# Altium schematic symbol library LVS Library.SchLib: 61 symbols (part 2 of 3)
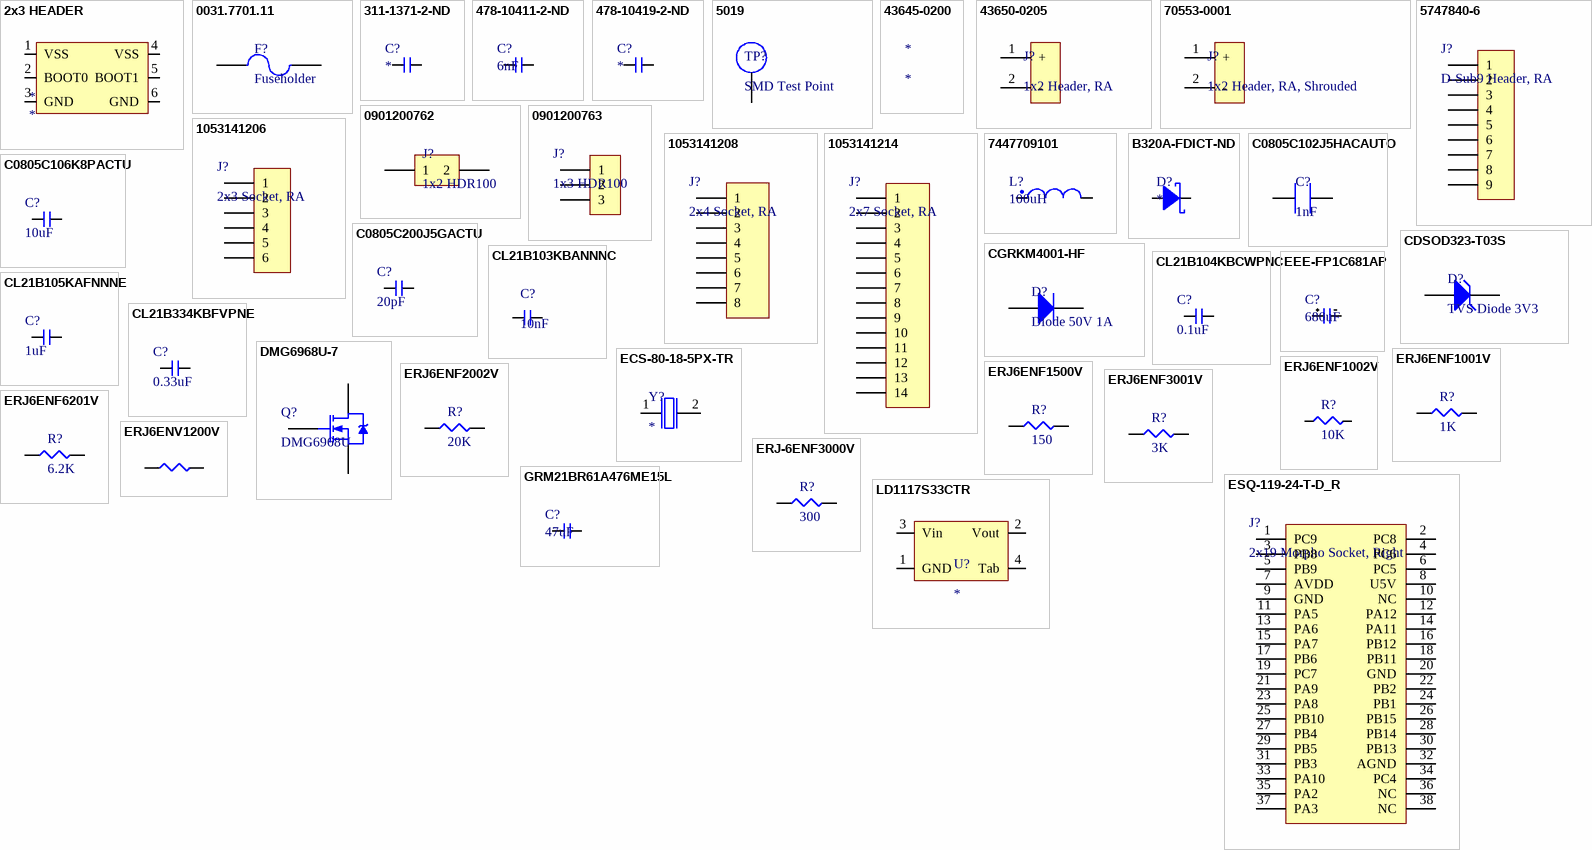
[diagram p2: symbols 2x3 HEADER to LD1117S33CTR]

## ERJ6ENF1500V
designator R?, comment 150
RES SMD 150 OHM 1% 1/8W 0805; Manufacturer: Panasonic; Manufacturer Part Number: ERJ6ENF1500V; Voltage Rating: 150V; Resistance: 150R; Power Rating: 125mW; Temperature Coefficient: 100ppm/°C; Supplier 1: Digi-Key; Supplier Part Number 1: P150CCT-ND; Stock 1: 287199; Pricing 1: 1 = 0.10000, 10 = 0.08100, 100 = 0.03110, 1000 = 0.01367, 2500 = 0.01181 (USD); RoHS: Yes; Mount: Surface Mount; Case/Package: 0805; Number of Pins: 2; Case Code (Metric): 2012; Case Code (Imperial): 0805; Contact Plating: Tin; Min Operating Temperature: -55°C; Max Operating Temperature: 155°C; Category: Resistors; Tolerance: 1%; Package Quantity: 1; Composition: Thick Film; Number of Terminations: 2; Military Standard: Not; Termination: SMD/SMT; Max Power Dissipation: 125mW; Voltage Rating (DC): 150V; Features: Automotive AEC-Q200; Working Voltage: 150V; Length: 2mm; Height: 0.6mm; Width: 0.049inch; Depth: 1.25mm; Radiation Hardening: No; REACH SVHC: No SVHC; Lead Free: Lead Free; ComponentLink1URL: https://datasheet.ciiva.com/11821/0900766b80f80784-11821520.pdf?src-supplier=RSComponents; ComponentLink1Description: https://datasheet.ciiva.com/11821/0900766b80f80784-11821520.pdf?src-supplier=RSComponents; ComponentLink2URL: https://datasheet.ciiva.com/7887/426256-7887029.pdf?src-supplier=Element14; ComponentLink2Description: https://datasheet.ciiva.com/7887/426256-7887029.pdf?src-supplier=Element14; ComponentLink3URL: https://datasheet.ciiva.com/16761/70260748-16761222.pdf?src-supplier=Allied+Electronics; ComponentLink3Description: https://datasheet.ciiva.com/16761/70260748-16761222.pdf?src-supplier=Allied+Electronics; ComponentLink4URL: https://datasheet.ciiva.com/46373/1678782-46373270.pdf?src-supplier=Element14; ComponentLink4Description: https://datasheet.ciiva.com/46373/1678782-46373270.pdf?src-supplier=Element14; ComponentLink5URL: https://datasheet.ciiva.com/46373/1678782-46373271.pdf?src-supplier=Element14; ComponentLink5Description: https://datasheet.ciiva.com/46373/1678782-46373271.pdf?src-supplier=Element14; ComponentLink6URL: https://datasheet.ciiva.com/30203/aoa0000ce2-30203641.pdf?src-supplier=Onlinecomponents.com; ComponentLink6Description: https://datasheet.ciiva.com/30203/aoa0000ce2-30203641.pdf?src-supplier=Onlinecomponents.com; ComponentLink7URL: https://datasheet.ciiva.com/9185/aoa0000ce2-9185514.pdf?src-supplier=Avnet; ComponentLink7Description: https://datasheet.ciiva.com/9185/aoa0000ce2-9185514.pdf?src-supplier=Avnet; Parameter 1: *
footprint R0805
pins: 1, 2

## ERJ6ENF2002V
designator R?, comment 20K
RES SMD 20K OHM 1% 1/8W 0805; Manufacturer: Panasonic; Manufacturer Part Number: ERJ6ENF2002V; Resistance: 20kR; Power Rating: 125mW; Voltage Rating: 150V; Temperature Coefficient: 100ppm/°C; Supplier 1: Digi-Key; Supplier Part Number 1: P20.0KCCT-ND; Stock 1: 1039498; Pricing 1: 1 = 0.10000, 10 = 0.08100, 100 = 0.03110, 1000 = 0.01367, 2500 = 0.01181 (USD); RoHS: Yes; Mount: Surface Mount; Case/Package: 0805; Case Code (Metric): 2012; Case Code (Imperial): 0805; Contact Plating: Tin; Min Operating Temperature: -55°C; Max Operating Temperature: 155°C; Tolerance: 1%; Packaging: Tape and Reel; Package Quantity: 1; Composition: Thick Film; Number of Terminations: 2; Military Standard: Not; Termination: SMD/SMT; Max Power Dissipation: 125mW; Voltage Rating (DC): 150V; Features: Automotive AEC-Q200; Working Voltage: 150V; Length: 2mm; Height: 0.6mm; Width: 0.049inch; Depth: 1.25mm; Radiation Hardening: No; REACH SVHC: No SVHC; Lead Free: Lead Free; ComponentLink1URL: https://datasheet.ciiva.com/11821/0900766b80f80784-11821565.pdf?src-supplier=RSComponents; ComponentLink1Description: https://datasheet.ciiva.com/11821/0900766b80f80784-11821565.pdf?src-supplier=RSComponents; ComponentLink2URL: https://datasheet.ciiva.com/30072/aoa0000ce2-30072453.pdf?src-supplier=Onlinecomponents.com; ComponentLink2Description: https://datasheet.ciiva.com/30072/aoa0000ce2-30072453.pdf?src-supplier=Onlinecomponents.com; ComponentLink3URL: https://datasheet.ciiva.com/43460/426256-43460054.pdf?src-supplier=Farnell; ComponentLink3Description: https://datasheet.ciiva.com/43460/426256-43460054.pdf?src-supplier=Farnell; ComponentLink4URL: https://datasheet.ciiva.com/16786/70260748-16786968.pdf?src-supplier=Allied+Electronics; ComponentLink4Description: https://datasheet.ciiva.com/16786/70260748-16786968.pdf?src-supplier=Allied+Electronics; ComponentLink5URL: https://datasheet.ciiva.com/9192/aoa0000ce2-9192153.pdf?src-supplier=Avnet; ComponentLink5Description: https://datasheet.ciiva.com/9192/aoa0000ce2-9192153.pdf?src-supplier=Avnet; ComponentLink6URL: https://datasheet.ciiva.com/48531/aoa0000ce2-48531785.pdf?src-supplier=Avnet; ComponentLink6Description: https://datasheet.ciiva.com/48531/aoa0000ce2-48531785.pdf?src-supplier=Avnet; ComponentLink7URL: https://datasheet.ciiva.com/15159/getdatasheetpartid-249649-15159066.pdf?src-supplier=Verical; ComponentLink7Description: https://datasheet.ciiva.com/15159/getdatasheetpartid-249649-15159066.pdf?src-supplier=Verical; ComponentLink8URL: https://datasheet.ciiva.com/17211/aoa0000ce2-17211115.pdf?src-supplier=Avnet+Europe; ComponentLink8Description: https://datasheet.ciiva.com/17211/aoa0000ce2-17211115.pdf?src-supplier=Avnet+Europe; ComponentLink9URL: https://datasheet.ciiva.com/46389/426256-46389083.pdf?src-supplier=Element14; ComponentLink9Description: https://datasheet.ciiva.com/46389/426256-46389083.pdf?src-supplier=Element14; ComponentLink10URL: https://datasheet.ciiva.com/46377/426256-46377356.pdf?src-supplier=Element14; ComponentLink10Description: https://datasheet.ciiva.com/46377/426256-46377356.pdf?src-supplier=Element14; ComponentLink11URL: https://datasheet.ciiva.com/24025/aoa0000ce2-24025709.pdf?src-supplier=Mouser; ComponentLink11Description: https://datasheet.ciiva.com/24025/aoa0000ce2-24025709.pdf?src-supplier=Mouser; ComponentLink12URL: https://datasheet.ciiva.com/28688/1678782-28688637.pdf?src-supplier=Element14; ComponentLink12Description: https://datasheet.ciiva.com/28688/1678782-28688637.pdf?src-supplier=Element14; ComponentLink13URL: https://datasheet.ciiva.com/16512/aoa0000ce2-16512158.pdf?src-supplier=Avnet+Asia; ComponentLink13Description: https://datasheet.ciiva.com/16512/aoa0000ce2-16512158.pdf?src-supplier=Avnet+Asia; ComponentLink14URL: https://datasheet.ciiva.com/22749/1678782-22749662.pdf?src-supplier=Element14; ComponentLink14Description: https://datasheet.ciiva.com/22749/1678782-22749662.pdf?src-supplier=Element14; Category: Resistors
footprint R0805
pins: 1, 2

## ERJ6ENF3001V
designator R?, comment 3K
RES SMD 3K OHM 1% 1/8W 0805; Manufacturer: Panasonic; Manufacturer Part Number: ERJ6ENF3001V; Resistance: 3kR; Power Rating: 125mW; Voltage Rating: 150V; Temperature Coefficient: 100ppm/°C; Supplier 1: Digi-Key; Supplier Part Number 1: P3.0KCCT-ND; Stock 1: 514759; Pricing 1: 1 = 0.10000, 10 = 0.08100, 100 = 0.03110, 1000 = 0.01367, 2500 = 0.01181 (USD); RoHS: Yes; Mount: Surface Mount; Case/Package: 0805; Weight: 0.000194oz; Case Code (Metric): 2012; Case Code (Imperial): 0805; Contact Plating: Tin; Min Operating Temperature: -55°C; Max Operating Temperature: 155°C; Tolerance: 1%; Packaging: Tape and Reel; Package Quantity: 1; Composition: Thick Film; Number of Terminations: 2; Termination: SMD/SMT; Military Standard: Not; Max Power Dissipation: 125mW; Voltage Rating (DC): 150V; Features: Automotive AEC-Q200; Length: 2mm; Height: 0.6mm; Width: 0.049inch; Depth: 1.25mm; Radiation Hardening: No; REACH SVHC: No SVHC; ComponentLink1URL: https://datasheet.ciiva.com/11821/0900766b80f80784-11821622.pdf?src-supplier=RSComponents; ComponentLink1Description: https://datasheet.ciiva.com/11821/0900766b80f80784-11821622.pdf?src-supplier=RSComponents; ComponentLink2URL: https://datasheet.ciiva.com/30198/aoa0000ce2-30198229.pdf?src-supplier=Onlinecomponents.com; ComponentLink2Description: https://datasheet.ciiva.com/30198/aoa0000ce2-30198229.pdf?src-supplier=Onlinecomponents.com; ComponentLink3URL: https://datasheet.ciiva.com/17213/aoa0000ce2-17213863.pdf?src-supplier=Avnet+Europe; ComponentLink3Description: https://datasheet.ciiva.com/17213/aoa0000ce2-17213863.pdf?src-supplier=Avnet+Europe; ComponentLink4URL: https://datasheet.ciiva.com/24165/aoa0000ce2-24165784.pdf?src-supplier=Mouser; ComponentLink4Description: https://datasheet.ciiva.com/24165/aoa0000ce2-24165784.pdf?src-supplier=Mouser; ComponentLink5URL: https://datasheet.ciiva.com/9117/aoa0000ce2-9117481.pdf?src-supplier=Avnet; ComponentLink5Description: https://datasheet.ciiva.com/9117/aoa0000ce2-9117481.pdf?src-supplier=Avnet; ComponentLink6URL: https://datasheet.ciiva.com/28691/1678782-28691979.pdf?src-supplier=Element14; ComponentLink6Description: https://datasheet.ciiva.com/28691/1678782-28691979.pdf?src-supplier=Element14; ComponentLink7URL: https://datasheet.ciiva.com/46386/426256-46386363.pdf?src-supplier=Element14; ComponentLink7Description: https://datasheet.ciiva.com/46386/426256-46386363.pdf?src-supplier=Element14; ComponentLink8URL: https://datasheet.ciiva.com/16758/70260748-16758588.pdf?src-supplier=Allied+Electronics; ComponentLink8Description: https://datasheet.ciiva.com/16758/70260748-16758588.pdf?src-supplier=Allied+Electronics; ComponentLink9URL: https://datasheet.ciiva.com/6137/426256-6137581.pdf?src-supplier=Farnell; ComponentLink9Description: https://datasheet.ciiva.com/6137/426256-6137581.pdf?src-supplier=Farnell; ComponentLink10URL: https://datasheet.ciiva.com/46373/426256-46373965.pdf?src-supplier=Element14; ComponentLink10Description: https://datasheet.ciiva.com/46373/426256-46373965.pdf?src-supplier=Element14; ComponentLink11URL: https://datasheet.ciiva.com/28565/1678782-28565182.pdf?src-supplier=Element14; ComponentLink11Description: https://datasheet.ciiva.com/28565/1678782-28565182.pdf?src-supplier=Element14; ComponentLink12URL: https://datasheet.ciiva.com/16762/70260748-16762943.pdf?src-supplier=Allied+Electronics; ComponentLink12Description: https://datasheet.ciiva.com/16762/70260748-16762943.pdf?src-supplier=Allied+Electronics; Category: Resistors
footprint R0805
pins: 1, 2

## ERJ6ENF6201V
designator R?, comment 6.2K
RES SMD 6.2K OHM 1% 1/8W 0805; Manufacturer: Panasonic; Manufacturer Part Number: ERJ6ENF6201V; Resistance: 6.2kR; Power Rating: 125mW; Voltage Rating: 150V; Temperature Coefficient: 100ppm/°C; Supplier 1: Digi-Key; Supplier Part Number 1: P6.20KCCT-ND; Stock 1: 65881; Pricing 1: 1 = 0.10000, 10 = 0.08100, 100 = 0.03110, 1000 = 0.01367, 2500 = 0.01181 (USD); RoHS: Yes; Mount: Surface Mount; Case/Package: 0805; Weight: 0.000194oz; Case Code (Imperial): 0805; Case Code (Metric): 2012; Contact Plating: Tin; Min Operating Temperature: -55°C; Max Operating Temperature: 155°C; Tolerance: 1%; Packaging: Tape and Reel; Package Quantity: 1; Composition: Thick Film; Termination: SMD/SMT; Number of Terminations: 2; Military Standard: Not; Max Power Dissipation: 125mW; Voltage Rating (DC): 150V; Features: Automotive AEC-Q200; Length: 2mm; Height: 0.6mm; Width: 1.2mm; Depth: 1.25mm; Radiation Hardening: No; REACH SVHC: No SVHC; ComponentLink1URL: https://datasheet.ciiva.com/11821/0900766b80f80784-11821682.pdf?src-supplier=RSComponents; ComponentLink1Description: https://datasheet.ciiva.com/11821/0900766b80f80784-11821682.pdf?src-supplier=RSComponents; ComponentLink2URL: https://datasheet.ciiva.com/46373/1678782-46373789.pdf?src-supplier=Element14; ComponentLink2Description: https://datasheet.ciiva.com/46373/1678782-46373789.pdf?src-supplier=Element14; ComponentLink3URL: https://datasheet.ciiva.com/46373/1678782-46373790.pdf?src-supplier=Element14; ComponentLink3Description: https://datasheet.ciiva.com/46373/1678782-46373790.pdf?src-supplier=Element14; Category: Resistors
footprint R0805
pins: 1, 2

## ERJ6ENV1200V
designator R?, comment 120 ohm  (value not drawn)
RES SMD 120 OHM 1% 1/8W 0805; ComponentLink1Description: https://datasheet.ciiva.com/11821/0900766b80f80784-11821533.pdf?src-supplier=RSComponents; ComponentLink1URL: https://datasheet.ciiva.com/11821/0900766b80f80784-11821533.pdf?src-supplier=RSComponents; Supplier 1: Digi-Key; Supplier Part Number 1: P120CCT-ND
footprint L0805
pins: 1, 2

## ERJ-6ENF3000V
designator R?, comment 300
RES SMD 300 OHM 1% 1/8W 0805; Manufacturer: Panasonic; Manufacturer Part Number: ERJ-6ENF3000V; Power Rating: 125mW; Voltage Rating: 150V; Resistance: 300R; Temperature Coefficient: 100ppm/°C; Supplier 1: Digi-Key; Supplier Part Number 1: P300CCT-ND; Stock 1: 271248; Pricing 1: 1 = 0.10000, 10 = 0.08100, 100 = 0.03110, 1000 = 0.01367, 2500 = 0.01181 (USD); RoHS: Yes; Mount: Surface Mount; Case/Package: 0805; Case Code (Imperial): 0805; Case Code (Metric): 2012; Contact Plating: Tin; Min Operating Temperature: -55°C; Max Operating Temperature: 155°C; Tolerance: 1%; Packaging: Tape and Reel; Package Quantity: 1; Composition: Thick Film; Number of Terminations: 2; Military Standard: Not; Max Power Dissipation: 125mW; Voltage Rating (DC): 150V; Features: Automotive AEC-Q200; Termination: SMD/SMT; Length: 2mm; Height: 0.028inch; Width: 1.2mm; Depth: 1.25mm; Radiation Hardening: No; REACH SVHC: No SVHC; Lead Free: Lead Free; ComponentLink1URL: https://datasheet.ciiva.com/7711/1678782-7711061.pdf?src-supplier=Element14; ComponentLink1Description: https://datasheet.ciiva.com/7711/1678782-7711061.pdf?src-supplier=Element14; ComponentLink2URL: https://datasheet.ciiva.com/9183/aoa0000ce2-9183350.pdf?src-supplier=Avnet; ComponentLink2Description: https://datasheet.ciiva.com/9183/aoa0000ce2-9183350.pdf?src-supplier=Avnet; ComponentLink3URL: https://datasheet.ciiva.com/30132/aoa0000ce2-30132023.pdf?src-supplier=Onlinecomponents.com; ComponentLink3Description: https://datasheet.ciiva.com/30132/aoa0000ce2-30132023.pdf?src-supplier=Onlinecomponents.com; ComponentLink4URL: https://datasheet.ciiva.com/17206/aoa0000ce2-17206376.pdf?src-supplier=Avnet+Europe; ComponentLink4Description: https://datasheet.ciiva.com/17206/aoa0000ce2-17206376.pdf?src-supplier=Avnet+Europe; ComponentLink5URL: https://datasheet.ciiva.com/16512/aoa0000ce2-16512233.pdf?src-supplier=Avnet+Asia; ComponentLink5Description: https://datasheet.ciiva.com/16512/aoa0000ce2-16512233.pdf?src-supplier=Avnet+Asia; ComponentLink6URL: https://datasheet.ciiva.com/22681/1678782-22681692.pdf?src-supplier=Element14; ComponentLink6Description: https://datasheet.ciiva.com/22681/1678782-22681692.pdf?src-supplier=Element14; ComponentLink7URL: https://datasheet.ciiva.com/46373/1678782-46373662.pdf?src-supplier=Element14; ComponentLink7Description: https://datasheet.ciiva.com/46373/1678782-46373662.pdf?src-supplier=Element14; ComponentLink8URL: https://datasheet.ciiva.com/46373/1678782-46373663.pdf?src-supplier=Element14; ComponentLink8Description: https://datasheet.ciiva.com/46373/1678782-46373663.pdf?src-supplier=Element14; Category: Resistors
footprint R0805
pins: 1, 2

## ESQ-119-24-T-D_R
designator J?, comment 2x19 Morpho Socket, Right
SAMTEC         ESQ-119-24-T-D             Board-To-Board Connector, Vertical, ESQ Series, 38 Contacts, Receptacle, 2.54 mm, Through Hole; Number of Contacts: 38; Pitch: 2.54mm; Supplier 1: Digi-Key; Supplier Part Number 1: SAM9313-ND; Manufacturer: Samtec; Manufacturer Part Number: ESQ-119-24-T-D; Stock 1: 71; Pricing 1: 1 = 5.23000, 11 = 4.42182, 110 = 3.41700, 506 = 2.81399, 1001 = 2.61300 (USD); RoHS: Yes; Mount: Through Hole; Contact Plating: Tin; Contact Material: Bronze; Number of Rows: 2; Gender: Receptacle; Termination: Solder; REACH SVHC: No SVHC; Category: Connectors
footprint ESQ-119-24-T-D (2x19 Elevated Socket)
pins: 1 PC9, 2 PC8, 3 PB8, 4 PC6, 5 PB9, 6 PC5, 7 AVDD, 8 U5V, 9 GND, 10 NC, 11 PA5, 12 PA12, 13 PA6, 14 PA11, 15 PA7, 16 PB12, 17 PB6, 18 PB11, 19 PC7, 20 GND, 21 PA9, 22 PB2, 23 PA8, 24 PB1, 25 PB10, 26 PB15, 27 PB4, 28 PB14, 29 PB5, 30 PB13, 31 PB3, 32 AGND, 33 PA10, 34 PC4, 35 PA2, 36 NC, 37 PA3, 38 NC

## GRM21BR61A476ME15L
designator C?, comment 47uF
CAP CER 47UF 10V X5R 0805; Capacitance: 4.7uF; Tolerance: 80%; Dielectric: Y5V; RoHS: Yes; Mount: Surface Mount; Case/Package: 0805; Number of Pins: 2; Case Code (Metric): 2012; Case Code (Imperial): 0805; Min Operating Temperature: -30°C; Max Operating Temperature: 85°C; Package Quantity: 1; Voltage Rating: 10V; Packaging: Tape and Reel; Voltage Rating (DC): 10V; Termination: SMD/SMT; Composition: Ceramic; Length: 2mm; Height: 0.85mm; Width: 0.049inch; Thickness: 0.033inch; Depth: 1.25mm; Radiation Hardening: No; REACH SVHC: Unknown; Lead Free: Lead Free; Halogen Free: Halogen Free; Supplier 1: Digi-Key; Supplier Part Number 1: 490-9961-1-ND
footprint C0805
pins: 1, 2

## LD1117S33CTR
designator U?
IC REG LINEAR 3.3V 800MA SOT223; Manufacturer 1: STMicroelectronics; Manufacturer Part Number 1: LD1117S33CTR; Number of Outputs: 1; Output Current: 950mA; Min Input Voltage: 5.3V; Dropout Voltage: 1.1V; Max Output Current: 1.3A; Max Input Voltage: 15V; Max Power Dissipation: 12W; Input Bias Current: 5mA; Polarity: Positive; Quiescent Current: 10mA; Accuracy: 1%; Output Type: Fixed; Supplier 1: Digi-Key; Stock 1: 43439; Pricing 1: 1=0.41000, 10=0.35100, 100=0.26180, 500=0.20570, 1000=0.15895 (USD); RoHS: Yes; Mount: Surface Mount; Case/Package: SOT-223; Number of Pins: 4; Weight: 0.01lb; Number of Terminals: 4; Contact Plating: Tin,Matte; Min Operating Temperature: -40°C; Max Operating Temperature: 125°C; Output Voltage: 3.3V; Packaging: Tape and Reel; Nominal Output Voltage: 3.3V; Package Quantity: 1; Max Supply Voltage: 15V; Min Supply Voltage: 3.3V; Number of Regulators: 1; Min Output Voltage: 3.3V; Power Dissipation: 12W; Max Output Voltage: 3.3V; Termination: SMD/SMT; Output Voltage Accuracy: 1%; Length: 6.5mm; Height: 1.8mm; Width: 3.5mm; Radiation Hardening: No; REACH SVHC: No SVHC; Lead Free: Lead Free; ComponentLink1URL: https://datasheet.ciiva.com/19480/1390223-19480586.pdf?src-supplier=Jameco; ComponentLink1Description: https://datasheet.ciiva.com/19480/1390223-19480586.pdf?src-supplier=Jameco; ComponentLink2URL: https://datasheet.ciiva.com/1511/1776449-1511572.pdf?src-supplier=Element14; ComponentLink2Description: https://datasheet.ciiva.com/1511/1776449-1511572.pdf?src-supplier=Element14; ComponentLink3URL: https://datasheet.ciiva.com/16392/cd00000544-16392069.pdf?src-supplier=Future+Electronics; ComponentLink3Description: https://datasheet.ciiva.com/16392/cd00000544-16392069.pdf?src-supplier=Future+Electronics; ComponentLink4URL: https://datasheet.ciiva.com/2041/cd00000544-2041932.pdf?src-supplier=Digi-Key; ComponentLink4Description: https://datasheet.ciiva.com/2041/cd00000544-2041932.pdf?src-supplier=Digi-Key; ComponentLink5URL: https://datasheet.ciiva.com/7992/1776449-7992620.pdf?src-supplier=Element14; ComponentLink5Description: https://datasheet.ciiva.com/7992/1776449-7992620.pdf?src-supplier=Element14; ComponentLink6URL: https://datasheet.ciiva.com/2041/cd00000544-2041933.pdf?src-supplier=Digi-Key; ComponentLink6Description: https://datasheet.ciiva.com/2041/cd00000544-2041933.pdf?src-supplier=Digi-Key; ComponentLink7URL: https://datasheet.ciiva.com/2041/cd00000544-2041934.pdf?src-supplier=Digi-Key; ComponentLink7Description: https://datasheet.ciiva.com/2041/cd00000544-2041934.pdf?src-supplier=Digi-Key; Supplier Part Number 1: 497-1241-1-ND
footprint SOT-233 (SOT223)
pins: 1 GND, 2 Vout, 3 Vin, 4 Tab

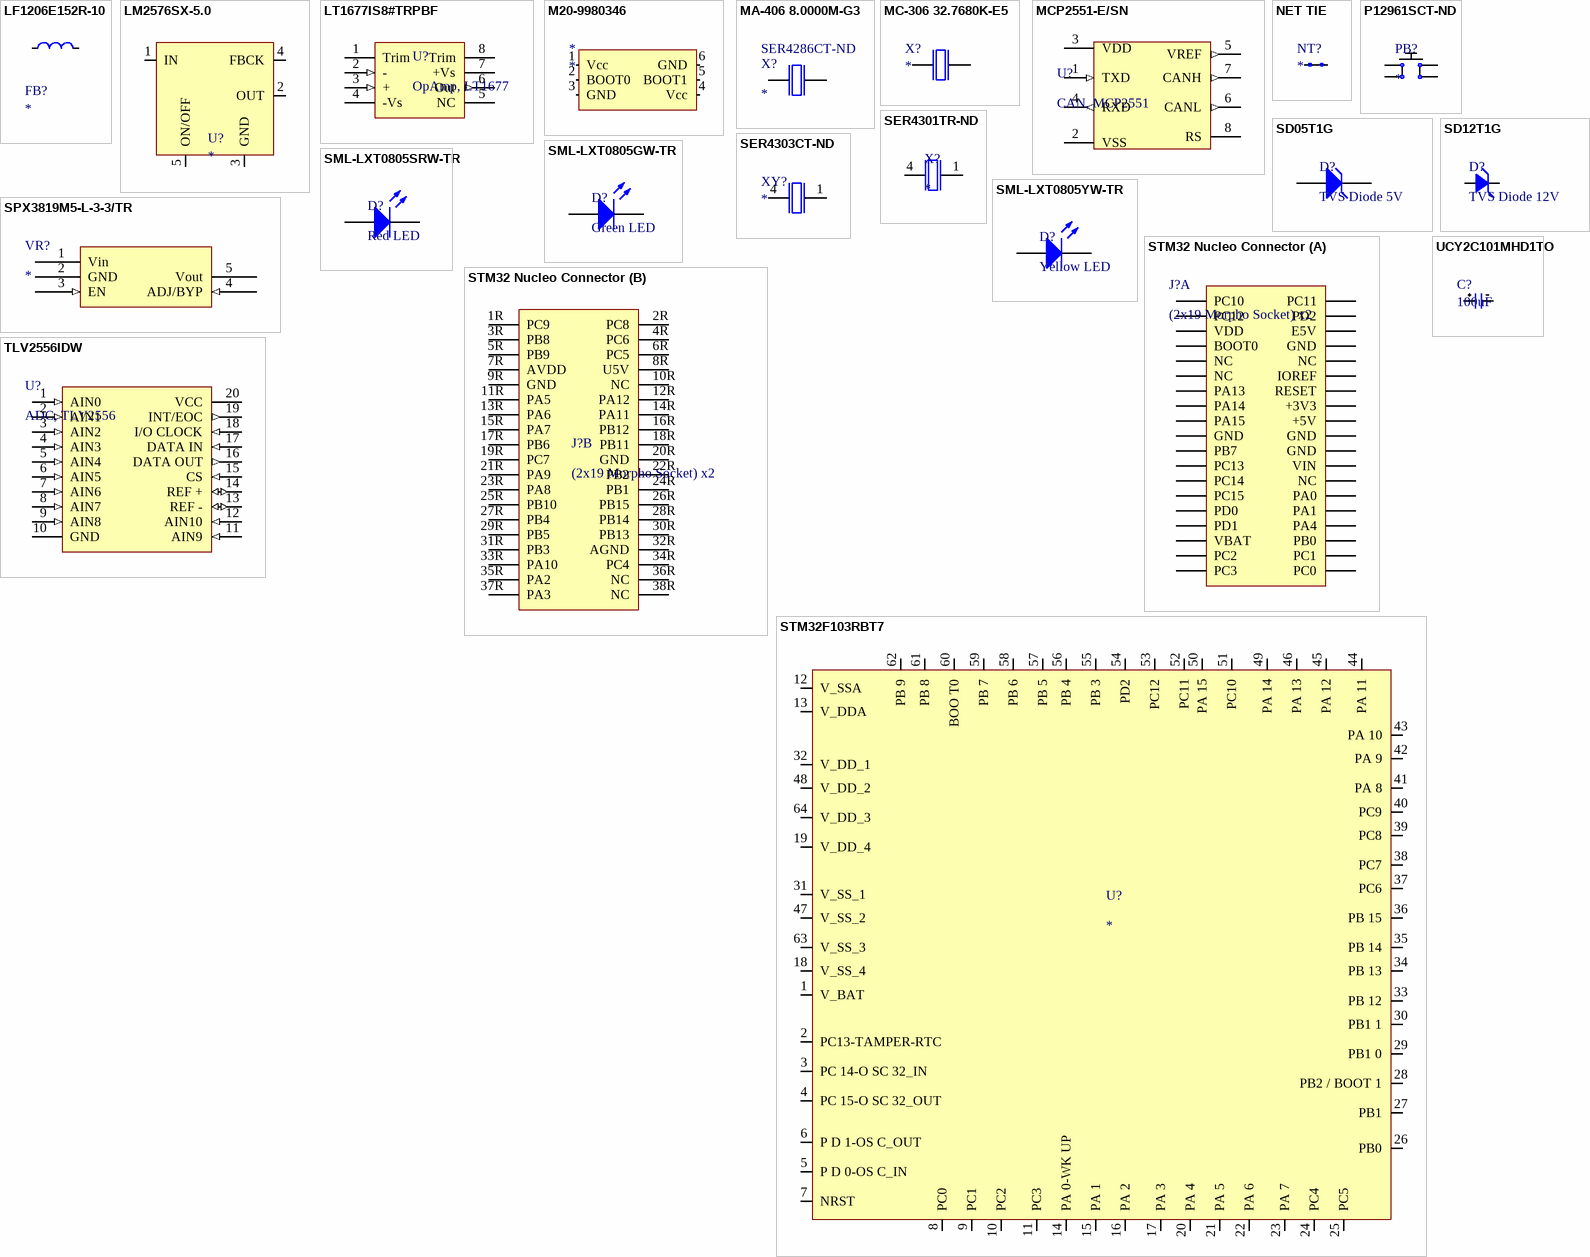
[diagram p1: symbols LF1206E152R-10 to UCY2C101MHD1TO]

## LF1206E152R-10
designator FB?
FERRITE BEAD 946 OHM 1206 1LN; Manufacturer 1: Laird; Manufacturer Part Number 1: LF1206E152R-10; Impedance: 300mR; Current Rating: 500mA; Number of Lines: 1; Test Frequency: 100MHz; Resistance: 950R; Shielding: Unshielded; ComponentLink1Description: mouser; ComponentLink1URL: https://www.mouser.ca/ProductDetail/Laird-Performance-Materials/LF1206E152R-10?qs=sGAEpiMZZMtdyQheitOmRQJP4YNOTsGtF9de3w5p7BA%3D; Supplier 1: Digi-Key; Stock 1: 31440; Pricing 1: 1=0.22000, 10=0.17900, 25=0.13960, 50=0.11560, 100=0.09960, 250=0.07972, 500=0.07174, 1000=0.05978 (USD); RoHS: Yes; Mount: Surface Mount; Case/Package: 1206; Case Code (Metric): 3216; Case Code (Imperial): 1206; Material: Ferrite; Min Operating Temperature: -40°C; Max Operating Temperature: 125°C; Package Quantity: 1; Packaging: Tape and Reel; Max Current Rating: 500mA; DC Resistance (DCR): 300mR; Max DC Current: 500mA; Termination: SMD/SMT; Length: 3.2mm; Height: 0.051inch; Width: 0.063inch; Depth: 1.8mm; Lead Free: Lead Free; ComponentLink2URL: https://datasheet.ciiva.com/8512/lf1206e152r-10-a-vp-8512625.pdf?src-supplier=Avnet; ComponentLink2Description: https://datasheet.ciiva.com/8512/lf1206e152r-10-a-vp-8512625.pdf?src-supplier=Avnet; ComponentLink3URL: https://datasheet.ciiva.com/1013/lf1206e152r-10-b-1013350.pdf?src-supplier=Digi-Key; ComponentLink3Description: https://datasheet.ciiva.com/1013/lf1206e152r-10-b-1013350.pdf?src-supplier=Digi-Key; Supplier Part Number 1: 240-2566-1-ND; ComponentLink4Description: https://www.digikey.com/product-detail/en/laird-signal-integrity-products/LF1206E152R-10/240-2566-1-ND/1236446; ComponentLink4URL: https://www.digikey.com/product-detail/en/laird-signal-integrity-products/LF1206E152R-10/240-2566-1-ND/1236446
footprint L1206
pins: 1, 2

## LM2576SX-5.0
designator U?
IC REG BUCK 5V 3A TO263-5; Supplier 1: Digi-Key; Supplier Part Number 1: LM2576SX-5.0/NOPBCT-ND
footprint TO263-5
pins: 1 IN, 2 OUT, 3 GND, 4 FBCK, 5 ON/OFF, 6 TAB hidden

## LT1677IS8#TRPBF
designator U?, comment OpAmp, LT1677
IC OPAMP GP 7.2MHZ RRO 8SO; Manufacturer: Analog Devices / Linear Technology; Manufacturer Part Number: LT1677IS8#TRPBF; Common Mode Rejection Ratio: 60dB; Min Dual Supply Voltage: 1.5V; Max Dual Supply Voltage: 18V; Slew Rate: 2.5V/µs; Max Supply Voltage: 44V; Min Supply Voltage: 2.5V; Number of Circuits: 1; Input Bias Current: 2nA; Input Offset Voltage (Vos): 60uV; Operating Supply Current: 2.75mA; Output Current per Channel: 35mA; Voltage Gain: 133.98dB; Power Supply Rejection Ratio (PSRR): 108dB; Supplier 1: Digi-Key; Supplier Part Number 1: LT1677IS8#TRPBFCT-ND; Stock 1: 4539; Pricing 1: 1 = 5.74000, 25 = 5.12560 (USD); RoHS: Yes; Case/Package: SOIC; Number of Pins: 8; Min Operating Temperature: -40°C; Max Operating Temperature: 85°C; Package Quantity: 2500; Unity Gain Bandwidth Product: 7.2MHz; Nominal Gain Bandwidth Product: 7.2MHz; Packaging: Tape and Reel; Gain Bandwidth Product: 7.2MHz; Number of Elements: 1; Number of Channels: 1; Lead Free: Lead Free; ComponentLink1URL: http://www.linear.com/docs/2102?src-supplier=Digi-Key; ComponentLink1Description: http://www.linear.com/docs/2102?src-supplier=Digi-Key; ComponentLink2URL: http://datasheet.iiic.cc/linear_technology/LT1677IS8_TRPBF.pdf?src-supplier=IIIC; ComponentLink2Description: http://datasheet.iiic.cc/linear_technology/LT1677IS8_TRPBF.pdf?src-supplier=IIIC; Category: Integrated Circuits (ICs)
footprint LT1677IS8#TRPBF (IC OPAMP GP 7.2MHZ RRO 8SO)
pins: 1 Trim, 2 - (in), 3 + (in), 4 -Vs (power), 5 NC, 6 Out (out), 7 +Vs (power), 8 Trim

## M20-9980346
designator *
Header 2x3; Manufacturer 1: Harwin; Manufacturer Part Number 1: M20-9980346; Number of Contacts: 6; Contact Resistance: 25mR; Current Rating: 3A; Gender: Male; Insulation Resistance: 10GR; Connector Type: Male Pin; Pitch: 2.54mm; Row Spacing: 0.1inch; Supplier 1: Digi-Key; Stock 1: 16309; Pricing 1: 1=0.24000, 10=0.22900, 100=0.15860, 500=0.13420, 1000=0.10980, 5000=0.09760, 10000=0.08845 (USD); RoHS: Yes; Mount: Through Hole; Contact Plating: Tin; Color: Black; Contact Material: Bronze,Brass; Housing Color: Black; Housing Material: Nylon; Min Operating Temperature: -40°C; Max Operating Temperature: 105°C; Number of Rows: 2; Termination: Solder; Package Quantity: 1000; Packaging: Bag; Max Current Rating: 3A; Number of Positions: 6; Orientation: Straight; Length: 7.62mm; Contact Mating Length: 0.24inch; Depth: 5.08mm; Radiation Hardening: No; REACH SVHC: No SVHC; ComponentLink1URL: https://datasheet.ciiva.com/11745/0900766b81034e61-11745752.pdf?src-supplier=RSComponents; ComponentLink1Description: https://datasheet.ciiva.com/11745/0900766b81034e61-11745752.pdf?src-supplier=RSComponents; ComponentLink2URL: https://datasheet.ciiva.com/26899/getdatasheetpartid-483857-26899433.pdf?src-supplier=Verical; ComponentLink2Description: https://datasheet.ciiva.com/26899/getdatasheetpartid-483857-26899433.pdf?src-supplier=Verical; ComponentLink3URL: https://datasheet.ciiva.com/8046/112195-8046906.pdf?src-supplier=Element14; ComponentLink3Description: https://datasheet.ciiva.com/8046/112195-8046906.pdf?src-supplier=Element14; Supplier Part Number 1: 952-2121-ND
pins: 1 Vcc (in), 2 BOOT0 (out), 3 GND (in), 4 Vcc (in), 5 BOOT1 (out), 6 GND (in)

## MA-406 8.0000M-G3
designator X?  Supplier Part Number 1: SER4286CT-ND
CRYSTAL 8.00 MHZ 20.0 PF SMD; Frequency: 32.768kHz; Load Capacitance: 12.5pF; ESR (Equivalent Series Resistance): 65kR; Frequency Tolerance: 20ppm; RoHS: Yes; Mount: Surface Mount; Case/Package: SMD/SMT; Min Operating Temperature: -40°C; Max Operating Temperature: 85°C; Packaging: Tape and Reel; Length: 0.276inch; Height: 0.055inch; Width: 0.06inch; ComponentLink1Description: https://www.digikey.ca/en/products/detail/epson/MA-406-8-0000M-G3-ROHS/5260050; ComponentLink1URL: https://www.digikey.ca/en/products/detail/epson/MA-406-8-0000M-G3-ROHS/5260050; Supplier 1: Digi-Key
footprint MA-406 8.0000M-G3
pins: 1, 4

## MC-306 32.7680K-E5
designator X?
CRYSTAL 32.7680 KHZ 6.0PF SMD; ESR (Equivalent Series Resistance): 65kR; Frequency: 32.768kHz; Load Capacitance: 9pF; Tolerance: 20ppm; RoHS: Yes; Mount: Surface Mount; Case/Package: SMD/SMT; Number of Pins: 4; Weight: 0.002116oz; Min Operating Temperature: -40°C; Max Operating Temperature: 85°C; Packaging: Tape and Reel; Package Quantity: 1000; Termination: SMD/SMT; Frequency Stability: 20ppm; Frequency Tolerance: 20ppm; Length: 6.7mm; Height: 0.055inch; Width: 0.06inch; Depth: 1.5mm; ComponentLink1Description: https://www.digikey.com/product-detail/en/epson/MC-306-32.7680K-E5-ROHS/SER4099CT-ND/6132719; ComponentLink1URL: https://www.digikey.com/product-detail/en/epson/MC-306-32.7680K-E5-ROHS/SER4099CT-ND/6132719; Supplier 1: Digi-Key; Supplier Part Number 1: MC-306 32.7680K-E5: ROHS-ND
footprint MC-306 32.7680K-E5 (CRYSTAL 32.7680 KHZ 6.0PF SMD)
pins: 1, 4

## MCP2551-E/SN
designator U?, comment CAN, MCP2551
IC, TRANSCEIVER, CAN, SMD, 8SOIC; Manufacturer: Microchip; Manufacturer Part Number: MCP2551-E/SN; Interface: CAN,Serial; Operating Supply Voltage: 5V; Data Rate: 1Mbps; Max Supply Voltage: 5.5V; Min Supply Voltage: 4.5V; Nominal Supply Current: 75mA; Number of Receive Buffers: 1; Supplier 1: Digi-Key; Supplier Part Number 1: MCP2551-E/SN-ND; Stock 1: 9215; Pricing 1: 1 = 1.22000, 25 = 1.00960, 100 = 0.91670 (USD); RoHS: Yes; Mount: Surface Mount; Case/Package: SOIC; Number of Pins: 8; Contact Plating: Matte,Tin; Min Operating Temperature: -40°C; Max Operating Temperature: 125°C; Package Quantity: 100; Packaging: Rail/Tube; Number of Transmit Buffers: 1; Max Supply Current: 75mA; Number of Transceivers: 1; Number of Drivers: 1; Number of Receivers: 1; Logic Function: Transceiver; Length: 0.192inch; Height: 0.059inch; Width: 0.154inch; Radiation Hardening: No; REACH SVHC: No SVHC; Lead Free: Lead Free; ComponentLink1URL: http://www.microchip.com/mymicrochip/filehandler.aspx?ddocname=en011797&src-supplier=Future+Electronics; ComponentLink1Description: http://www.microchip.com/mymicrochip/filehandler.aspx?ddocname=en011797&src-supplier=Future+Electronics; ComponentLink2URL: http://www.microchip.com/mymicrochip/filehandler.aspx?ddocname=en023833&src-supplier=Digi-Key; ComponentLink2Description: http://www.microchip.com/mymicrochip/filehandler.aspx?ddocname=en023833&src-supplier=Digi-Key; ComponentLink3URL: http://www.mouser.com/ds/2/268/20001667G-1115479.pdf?src-supplier=Mouser; ComponentLink3Description: http://www.mouser.com/ds/2/268/20001667G-1115479.pdf?src-supplier=Mouser; ComponentLink4URL: https://www.distrelec.biz/Web/Downloads/_t/ds/mcp2551_eng_tds.pdf?mime=application%2Fpdf&src-supplier=Distrelec; ComponentLink4Description: https://www.distrelec.biz/Web/Downloads/_t/ds/mcp2551_eng_tds.pdf?mime=application%2Fpdf&src-supplier=Distrelec; ComponentLink5URL: http://www.farnell.com/datasheets/2299423.pdf?src-supplier=Element14; ComponentLink5Description: http://www.farnell.com/datasheets/2299423.pdf?src-supplier=Element14; Category: Integrated Circuits (ICs); ComponentLink6Description: Digikey; ComponentLink6URL: https://www.digikey.ca/product-detail/en/microchip-technology/MCP2551-E-SN/MCP2551-E-SN-ND/509446
footprint LT1677IS8#TRPBF (IC OPAMP GP 7.2MHZ RRO 8SO)
pins: 1 TXD (in), 2 VSS (power), 3 VDD (power), 4 RXD (out), 5 VREF (out), 6 CANL (out), 7 CANH (out), 8 RS

## NET TIE
designator NT?
NetTie
footprint NETTIE
pins: 0, 1

## P12961SCT-ND
designator PB?
SWITCH TACTILE SPST-NO 0.02A 15V; Manufacturer 1: Panasonic; Manufacturer Part Number 1: EVQ-Q2Y03W; Mechanical Life: 100000Cycles; Operating Force: 3.5N; Contact Current Rating: 20mA; Contact Resistance: 100mR; Number of Poles: 1; Voltage Rating (AC): 250V; Throw Configuration: SPST; Illumination Type: Non-Illuminated,Illuminated; Switch Travel: 0.25mm; Switch Function: Off-Mom; Actuator Type: Standard; Actuator Length: 1.3mm; Supplier 1: Digi-Key; Stock 1: 209620; Pricing 1: 1=0.30000, 10=0.28600, 25=0.27520, 50=0.26520, 100=0.25490, 250=0.23452, 500=0.20394, 1000=0.17335 (USD); RoHS: Yes; Mount: Surface Mount; Case/Package: SMD/SMT; Color: White; Min Operating Temperature: -40°C; Max Operating Temperature: 85°C; Current Rating: 20mA; Voltage Rating (DC): 15V; Packaging: Tape and Reel; Package Quantity: 1; Max Current Rating: 20mA; Max Voltage Rating (DC): 15V; Termination: SMD/SMT; Electrical Life: 100000Cycles; Orientation: Straight; Length: 6mm; Height: 3.1mm; Width: 6mm; Depth: 6.6mm; Thickness: 1.8mm; Radiation Hardening: No; REACH SVHC: Unknown; Lead Free: Lead Free; ComponentLink1URL: https://datasheet.ciiva.com/25603/0900766b810ad3e5-25603840.pdf?src-supplier=RSComponents; ComponentLink1Description: https://datasheet.ciiva.com/25603/0900766b810ad3e5-25603840.pdf?src-supplier=RSComponents; ComponentLink2URL: https://datasheet.ciiva.com/2901/atk0000ce28-2901284.pdf?src-supplier=Digi-Key; ComponentLink2Description: https://datasheet.ciiva.com/2901/atk0000ce28-2901284.pdf?src-supplier=Digi-Key; ComponentLink3URL: https://datasheet.ciiva.com/2901/atk0000ce28-2901285.pdf?src-supplier=Digi-Key; ComponentLink3Description: https://datasheet.ciiva.com/2901/atk0000ce28-2901285.pdf?src-supplier=Digi-Key; ComponentLink4URL: https://datasheet.ciiva.com/2901/atk0000ce28-2901286.pdf?src-supplier=Digi-Key; ComponentLink4Description: https://datasheet.ciiva.com/2901/atk0000ce28-2901286.pdf?src-supplier=Digi-Key; ComponentLink5URL: https://datasheet.ciiva.com/30127/8atk0000ce28-30127814.pdf?src-supplier=Onlinecomponents.com; ComponentLink5Description: https://datasheet.ciiva.com/30127/8atk0000ce28-30127814.pdf?src-supplier=Onlinecomponents.com; ComponentLink6URL: https://datasheet.ciiva.com/8165/atk0000ce28-8165191.pdf?src-supplier=Avnet; ComponentLink6Description: https://datasheet.ciiva.com/8165/atk0000ce28-8165191.pdf?src-supplier=Avnet; ComponentLink7URL: https://datasheet.ciiva.com/17099/70270561-17099386.pdf?src-supplier=Allied+Electronics; ComponentLink7Description: https://datasheet.ciiva.com/17099/70270561-17099386.pdf?src-supplier=Allied+Electronics; ComponentLink8URL: https://datasheet.ciiva.com/5685/28111-5685339.pdf?src-supplier=Farnell; ComponentLink8Description: https://datasheet.ciiva.com/5685/28111-5685339.pdf?src-supplier=Farnell; ComponentLink9URL: https://datasheet.ciiva.com/16438/atk0000ce28-16438079.pdf?src-supplier=Future+Electronics; ComponentLink9Description: https://datasheet.ciiva.com/16438/atk0000ce28-16438079.pdf?src-supplier=Future+Electronics; Supplier Part Number 1: P12961SDKR-ND
footprint P12961SCT-ND (SWITCH TACTILE SPST-NO 0.02A 15V)
pins: 1 A, 2 A', 3 B, 4 B'

## SD05T1G
designator D?, comment TVS Diode 5V
TVS DIODE 5V 9.8V SOD323; Manufacturer: ON Semiconductor; Manufacturer Part Number: SD05T1G; Capacitance: 350pF; Direction: Unidirectional; Clamping Voltage: 14.5V; Peak Pulse Power: 350W; Number of Unidirectional Channels: 1; Min Breakdown Voltage: 6.2V; Power Line Protection: No; Peak Pulse Current: 24A; Element Configuration: Single; Breakdown Voltage: 6.75V; Leakage Current: 10uA; Max Breakdown Voltage: 7.3V; Test Current: 1mA; ESD Protection: Yes; Max Power Dissipation: 200mW; Supplier 1: Digi-Key; Supplier Part Number 1: SD05T1GOSCT-ND; Stock 1: 61559; Pricing 1: 1 = 0.49000, 10 = 0.36500, 100 = 0.20680, 500 = 0.13698, 1000 = 0.10502 (USD); RoHS: Yes; Case/Package: SOD-323-2; Number of Pins: 2; Contact Plating: Tin; Min Operating Temperature: -55°C; Max Operating Temperature: 150°C; Packaging: Tape and Reel; Reverse Standoff Voltage: 5V; Working Voltage: 5V; Composition: Zener; Package Quantity: 1; Operating Supply Voltage: 5V; Max Surge Current: 24A; Number of Elements: 1; Reverse Breakdown Voltage: 6.2V; Polarity: Unidirectional; Termination: SMD/SMT; Power Dissipation: 350W; Max Reverse Leakage Current: 10uA; Voltage Rating (DC): 5V; Max Output Current: 24A; Length: 1.7mm; Height: 1mm; Width: 1.35mm; Depth: 1.25mm; Radiation Hardening: No; Lead Free: Lead Free; REACH SVHC: No SVHC; ComponentLink1URL: https://datasheet.ciiva.com/4507/sd05t1-d-241634-4507873.pdf?src-supplier=Mouser; ComponentLink1Description: https://datasheet.ciiva.com/4507/sd05t1-d-241634-4507873.pdf?src-supplier=Mouser; ComponentLink2URL: https://datasheet.ciiva.com/16200/sd05t1-d-16200994.pdf?src-supplier=Future+Electronics; ComponentLink2Description: https://datasheet.ciiva.com/16200/sd05t1-d-16200994.pdf?src-supplier=Future+Electronics; ComponentLink3URL: https://datasheet.ciiva.com/15143/getdatasheetpartid-117154-15143559.pdf?src-supplier=Verical; ComponentLink3Description: https://datasheet.ciiva.com/15143/getdatasheetpartid-117154-15143559.pdf?src-supplier=Verical; ComponentLink4URL: https://datasheet.ciiva.com/30478/0900766b81250bd7-30478714.pdf?src-supplier=RSComponents; ComponentLink4Description: https://datasheet.ciiva.com/30478/0900766b81250bd7-30478714.pdf?src-supplier=RSComponents; ComponentLink5URL: https://datasheet.ciiva.com/339/sd05t1-d-339830.pdf?src-supplier=Digi-Key; ComponentLink5Description: https://datasheet.ciiva.com/339/sd05t1-d-339830.pdf?src-supplier=Digi-Key; ComponentLink6URL: https://datasheet.ciiva.com/339/sd05t1-d-339831.pdf?src-supplier=Digi-Key; ComponentLink6Description: https://datasheet.ciiva.com/339/sd05t1-d-339831.pdf?src-supplier=Digi-Key; ComponentLink7URL: https://datasheet.ciiva.com/11193/sd05t1-d-11193467.pdf?src-supplier=Avnet; ComponentLink7Description: https://datasheet.ciiva.com/11193/sd05t1-d-11193467.pdf?src-supplier=Avnet; ComponentLink8URL: https://datasheet.ciiva.com/22637/1878253-22637228.pdf?src-supplier=Element14; ComponentLink8Description: https://datasheet.ciiva.com/22637/1878253-22637228.pdf?src-supplier=Element14; ComponentLink9URL: https://datasheet.ciiva.com/25956/sd05t1-d-25956638.pdf?src-supplier=Avnet+Europe; ComponentLink9Description: https://datasheet.ciiva.com/25956/sd05t1-d-25956638.pdf?src-supplier=Avnet+Europe; Category: Circuit Protection
footprint SOD-323 (SOD, 2-Leads, Body 1.7x1.25mm)
pins: 1 A, 2 K

## SD12T1G
designator D?, comment TVS Diode 12V
TVS DIODE 12V 19V SOD323; Manufacturer: ON Semiconductor; Manufacturer Part Number: SD12T1G; Number of Elements: 1; Capacitance: 150pF; Reverse Breakdown Voltage: 13.3V; Max Surge Current: 15A; Direction: Unidirectional; Clamping Voltage: 25V; Peak Pulse Power: 350W; Power Line Protection: No; ESD Protection: Yes; Max Reverse Leakage Current: 1uA; Test Current: 1mA; Max Breakdown Voltage: 15.75V; Element Configuration: Single; Supplier 1: Digi-Key; Supplier Part Number 1: SD12T1GOSCT-ND; Stock 1: 159232; Pricing 1: 1 = 0.47000, 10 = 0.34900, 100 = 0.19740, 500 = 0.13076, 1000 = 0.10025 (USD); RoHS: Yes; Case/Package: SOD-323-2; Number of Pins: 2; Contact Plating: Tin; Min Operating Temperature: -55°C; Max Operating Temperature: 150°C; Package Quantity: 1; Operating Supply Voltage: 12V; Packaging: Tape and Reel; Number of Unidirectional Channels: 1; Reverse Standoff Voltage: 12V; Min Breakdown Voltage: 13.3V; Breakdown Voltage: 13.3V; Number of Channels: 1; Polarity: Unidirectional; Termination: SMD/SMT; Working Voltage: 12V; Leakage Current: 1uA; Peak Pulse Current: 15A; Power Dissipation: 350W; Voltage Rating (DC): 12V; Composition: Zener; Length: 1.7mm; Height: 1mm; Width: 1.35mm; Depth: 1.25mm; Radiation Hardening: No; Lead Free: Lead Free; ComponentLink1URL: https://datasheet.ciiva.com/11193/sd05t1-d-11193474.pdf?src-supplier=Avnet; ComponentLink1Description: https://datasheet.ciiva.com/11193/sd05t1-d-11193474.pdf?src-supplier=Avnet; ComponentLink2URL: https://datasheet.ciiva.com/15143/getdatasheetpartid-52921-15143109.pdf?src-supplier=Verical; ComponentLink2Description: https://datasheet.ciiva.com/15143/getdatasheetpartid-52921-15143109.pdf?src-supplier=Verical; ComponentLink3URL: https://datasheet.ciiva.com/30479/0900766b81250bd7-30479026.pdf?src-supplier=RSComponents; ComponentLink3Description: https://datasheet.ciiva.com/30479/0900766b81250bd7-30479026.pdf?src-supplier=RSComponents; ComponentLink4URL: https://datasheet.ciiva.com/339/sd05t1-d-339833.pdf?src-supplier=Digi-Key; ComponentLink4Description: https://datasheet.ciiva.com/339/sd05t1-d-339833.pdf?src-supplier=Digi-Key; ComponentLink5URL: https://datasheet.ciiva.com/11193/sd05t1-d-11193470.pdf?src-supplier=Avnet; ComponentLink5Description: https://datasheet.ciiva.com/11193/sd05t1-d-11193470.pdf?src-supplier=Avnet; ComponentLink6URL: https://datasheet.ciiva.com/339/sd05t1-d-339832.pdf?src-supplier=Digi-Key; ComponentLink6Description: https://datasheet.ciiva.com/339/sd05t1-d-339832.pdf?src-supplier=Digi-Key; ComponentLink7URL: https://datasheet.ciiva.com/339/sd05t1-d-339834.pdf?src-supplier=Digi-Key; ComponentLink7Description: https://datasheet.ciiva.com/339/sd05t1-d-339834.pdf?src-supplier=Digi-Key; Category: Circuit Protection
footprint SOD-323 (SOD, 2-Leads, Body 1.7x1.25mm)
pins: 1 A, 2 K

## SER4301TR-ND
designator X?
CRYSTAL 32.7680 KHZ 12.5PF SMD ----- DO NOT CONNECT #2 AND #3 TO EXTERNAL DEVICE; Manufacturer 1: Epson; Manufacturer Part Number 1: MC-14632.7680KA-A5:PURESN; Frequency: 32.768kHz; ESR (Equivalent Series Resistance): 65kR; Frequency Tolerance: 20ppm; Supplier 1: Digi-Key; Stock 1: 3000; Pricing 1: 3000=0.18000, 6000=0.17400, 15000=0.16800 (USD); RoHS: Yes; Mount: Surface Mount; Case/Package: SMD/SMT; Min Operating Temperature: -40°C; Max Operating Temperature: 85°C; Packaging: Tape and Reel; Load Capacitance: 12.5pF; Length: 0.276inch; Height: 0.055inch; Width: 0.06inch; Supplier Part Number 1: SER4301TR-ND; ComponentLink1Description: MC-146 32.7680KA-A5: PURE SN || Digikey; ComponentLink1URL: https://www.digikey.ca/product-detail/en/epson/MC-146-32.7680KA-A5-PURE-SN/SER4301TR-ND/5261139; ComponentLink2Description: DataSheet; ComponentLink2URL: https://support.epson.biz/td/api/doc_check.php?dl=brief_MC-146&lang=en
footprint SE4301TR-ND
footprint CRYSTAL 32.7680 SER4301TR-ND (CRYSTAL 32.7680 KHZ 12.5PF SMD)
pins: 1, 4

## SER4303CT-ND
designator XY?
CRYSTAL 32.7680 KHZ 9.0PF SMD; Manufacturer 1: Epson; Manufacturer Part Number 1: MC-14632.7680KA-AC0:ROHS; ESR (Equivalent Series Resistance): 65kR; Frequency: 32.768kHz; Load Capacitance: 9pF; Tolerance: 20ppm; Supplier 1: Mouser; Stock 1: 978; Pricing 1: 1=0.37000, 10=0.30000, 50=0.27100, 100=0.24000, 500=0.21100, 1000=0.19200, 2000=0.18000, 5000=0.17400, 10000=0.16800 (USD); RoHS: Yes; Mount: Surface Mount; Case/Package: SMD/SMT; Number of Pins: 4; Weight: 0.002116oz; Min Operating Temperature: -40°C; Max Operating Temperature: 85°C; Packaging: Tape and Reel; Package Quantity: 1000; Termination: SMD/SMT; Frequency Stability: 20ppm; Frequency Tolerance: 20ppm; Length: 6.7mm; Height: 0.055inch; Width: 0.06inch; Depth: 1.5mm; ComponentLink1URL: https://datasheet.ciiva.com/15116/getdatasheetpartid-304223-15116433.pdf?src-supplier=Verical; ComponentLink1Description: https://datasheet.ciiva.com/15116/getdatasheetpartid-304223-15116433.pdf?src-supplier=Verical; Supplier Part Number 1: 732-MC146-32.7KAAC0R
pins: 1, 4

## SML-LXT0805GW-TR
designator D?, comment Green LED
LED GREEN DIFFUSED SMD; Manufacturer: Lumex; Manufacturer Part Number: SML-LXT0805GW-TR; Lens Color: White; Viewing Angle: 140°; Lens Style: Rectangular; Luminous Intensity: 11mcd; Forward Voltage: 2V; Wavelength: 565nm; Forward Current: 20mA; Power Rating: 50mW; Dominant Wavelength: 568nm; Number of LEDs: 1; Approvals: UL; Supplier 1: Digi-Key; Supplier Part Number 1: 67-1553-1-ND; Stock 1: 417501; Pricing 1: 1 = 0.41000, 10 = 0.29000, 25 = 0.25160, 100 = 0.19360, 250 = 0.15732, 500 = 0.11616, 1000 = 0.09680 (USD); RoHS: Yes; Mount: Surface Mount; Case/Package: 0805; Number of Pins: 2; Color: Green; Case Code (Metric): 2012; Case Code (Imperial): 0805; Min Operating Temperature: -25°C; Max Operating Temperature: 85°C; Package Quantity: 1; Packaging: Tape and Reel; Illumination Color: Green; Test Current: 20mA; Lens Transparency: Diffused; Length: 2mm; Height: 0.8mm; Width: 1.25mm; REACH SVHC: No SVHC; Lead Free: Lead Free; ComponentLink1URL: https://datasheet.ciiva.com/2110/sml-lxt0805gw-tr-2110192.pdf?src-supplier=Digi-Key; ComponentLink1Description: https://datasheet.ciiva.com/2110/sml-lxt0805gw-tr-2110192.pdf?src-supplier=Digi-Key; ComponentLink2URL: https://datasheet.ciiva.com/4689/sml-lxt0805gw-tr-82662-4689266.pdf?src-supplier=Mouser; ComponentLink2Description: https://datasheet.ciiva.com/4689/sml-lxt0805gw-tr-82662-4689266.pdf?src-supplier=Mouser; ComponentLink3URL: https://datasheet.ciiva.com/30063/sml-lxt0805gw-tr-30063898.pdf?src-supplier=Onlinecomponents.com; ComponentLink3Description: https://datasheet.ciiva.com/30063/sml-lxt0805gw-tr-30063898.pdf?src-supplier=Onlinecomponents.com; ComponentLink4URL: https://datasheet.ciiva.com/2110/sml-lxt0805gw-tr-2110193.pdf?src-supplier=Digi-Key; ComponentLink4Description: https://datasheet.ciiva.com/2110/sml-lxt0805gw-tr-2110193.pdf?src-supplier=Digi-Key; ComponentLink5URL: https://datasheet.ciiva.com/2110/sml-lxt0805gw-tr-2110194.pdf?src-supplier=Digi-Key; ComponentLink5Description: https://datasheet.ciiva.com/2110/sml-lxt0805gw-tr-2110194.pdf?src-supplier=Digi-Key; ComponentLink6URL: https://datasheet.ciiva.com/16383/sml-lxt0805gw-tr-16383723.pdf?src-supplier=Future+Electronics; ComponentLink6Description: https://datasheet.ciiva.com/16383/sml-lxt0805gw-tr-16383723.pdf?src-supplier=Future+Electronics; Category: Optoelectronics
footprint L0805
pins: 1 A, 2 K

## SML-LXT0805SRW-TR
designator D?, comment Red LED
LED RED DIFFUSED 0805 SMD; Manufacturer: Lumex; Manufacturer Part Number: SML-LXT0805SRW-TR; Lens Color: White; Forward Current: 20mA; Forward Voltage: 1.8V; Power Rating: 80mW; Luminous Intensity: 21mcd; Viewing Angle: 140°; Wavelength: 660nm; Number of LEDs: 1; Supplier 1: Digi-Key; Supplier Part Number 1: 67-1555-1-ND; Stock 1: 60948; Pricing 1: 1 = 0.51000, 10 = 0.36600, 25 = 0.28080, 100 = 0.18320, 250 = 0.13432, 500 = 0.11396, 1000 = 0.09361 (USD); RoHS: Yes; Mount: Surface Mount; Case/Package: 0805; Number of Pins: 2; Color: Red; Case Code (Metric): 2012; Case Code (Imperial): 0805; Min Operating Temperature: -25°C; Max Operating Temperature: 80°C; Illumination Color: Red; Packaging: Tape and Reel; Lens Style: Diffused; Package Quantity: 1; Test Current: 20mA; Lens Transparency: Diffused; Length: 2mm; Height: 0.8mm; Width: 1.25mm; REACH SVHC: No SVHC; Lead Free: Lead Free; ComponentLink1URL: https://datasheet.ciiva.com/15967/smllxt0805srwtr-15967412.pdf?src-supplier=Onlinecomponents.com; ComponentLink1Description: https://datasheet.ciiva.com/15967/smllxt0805srwtr-15967412.pdf?src-supplier=Onlinecomponents.com; ComponentLink2URL: https://datasheet.ciiva.com/4688/sml-lxt0805srw-tr-114457-4688733.pdf?src-supplier=Mouser; ComponentLink2Description: https://datasheet.ciiva.com/4688/sml-lxt0805srw-tr-114457-4688733.pdf?src-supplier=Mouser; ComponentLink3URL: https://datasheet.ciiva.com/2110/sml-lxt0805srw-tr-2110039.pdf?src-supplier=Digi-Key; ComponentLink3Description: https://datasheet.ciiva.com/2110/sml-lxt0805srw-tr-2110039.pdf?src-supplier=Digi-Key; ComponentLink4URL: https://datasheet.ciiva.com/2110/sml-lxt0805srw-tr-2110040.pdf?src-supplier=Digi-Key; ComponentLink4Description: https://datasheet.ciiva.com/2110/sml-lxt0805srw-tr-2110040.pdf?src-supplier=Digi-Key; ComponentLink5URL: https://datasheet.ciiva.com/2110/sml-lxt0805srw-tr-2110041.pdf?src-supplier=Digi-Key; ComponentLink5Description: https://datasheet.ciiva.com/2110/sml-lxt0805srw-tr-2110041.pdf?src-supplier=Digi-Key; ComponentLink6URL: https://datasheet.ciiva.com/16376/sml-lxt0805srw-tr-16376845.pdf?src-supplier=Future+Electronics; ComponentLink6Description: https://datasheet.ciiva.com/16376/sml-lxt0805srw-tr-16376845.pdf?src-supplier=Future+Electronics; Category: Optoelectronics
footprint L0805
pins: 1 A, 2 K

## SML-LXT0805YW-TR
designator D?, comment Yellow LED
LED; Yellow; 10mcd; SMD; 100mA; 2.1V; 140deg; 585nm; Diffused; 5V; 50mW; -25degC; Manufacturer: Lumex; Manufacturer Part Number: SML-LXT0805YW-TR; Lens Color: White; Viewing Angle: 140°; Lens Style: Rectangular; Forward Current: 20mA; Number of LEDs: 1; Approvals: UL; Supplier 1: Digi-Key; Supplier Part Number 1: 67-1554-1-ND; Stock 1: 129042; Pricing 1: 1 = 0.38000, 10 = 0.27100, 25 = 0.23440, 100 = 0.18040, 250 = 0.14656, 500 = 0.10824, 1000 = 0.09020 (USD); RoHS: Yes; Mount: Surface Mount; Case/Package: 0805; Number of Pins: 2; Color: Yellow; Case Code (Metric): 2012; Case Code (Imperial): 0805; Min Operating Temperature: -25°C; Max Operating Temperature: 85°C; Wavelength: 585nm; Package Quantity: 1; Packaging: Tape and Reel; Luminous Intensity: 10mcd; Forward Voltage: 2.1V; Illumination Color: Yellow; Power Rating: 50mW; Test Current: 20mA; Lens Transparency: Diffused; Dominant Wavelength: 585nm; Length: 2mm; Height: 0.8mm; Width: 1.25mm; REACH SVHC: No SVHC; Lead Free: Lead Free; ComponentLink1URL: https://datasheet.ciiva.com/4689/sml-lxt0805yw-tr-114463-4689131.pdf?src-supplier=Mouser; ComponentLink1Description: https://datasheet.ciiva.com/4689/sml-lxt0805yw-tr-114463-4689131.pdf?src-supplier=Mouser; ComponentLink2URL: https://datasheet.ciiva.com/15967/sml-lxt0805yw-tr-15967416.pdf?src-supplier=Onlinecomponents.com; ComponentLink2Description: https://datasheet.ciiva.com/15967/sml-lxt0805yw-tr-15967416.pdf?src-supplier=Onlinecomponents.com; ComponentLink3URL: https://datasheet.ciiva.com/2110/sml-lxt0805yw-tr-2110162.pdf?src-supplier=Digi-Key; ComponentLink3Description: https://datasheet.ciiva.com/2110/sml-lxt0805yw-tr-2110162.pdf?src-supplier=Digi-Key; ComponentLink4URL: https://datasheet.ciiva.com/8072/sml-lxt0805yw-tr-8072917.pdf?src-supplier=Element14; ComponentLink4Description: https://datasheet.ciiva.com/8072/sml-lxt0805yw-tr-8072917.pdf?src-supplier=Element14; ComponentLink5URL: https://datasheet.ciiva.com/2110/sml-lxt0805yw-tr-2110163.pdf?src-supplier=Digi-Key; ComponentLink5Description: https://datasheet.ciiva.com/2110/sml-lxt0805yw-tr-2110163.pdf?src-supplier=Digi-Key; ComponentLink6URL: https://datasheet.ciiva.com/2110/sml-lxt0805yw-tr-2110164.pdf?src-supplier=Digi-Key; ComponentLink6Description: https://datasheet.ciiva.com/2110/sml-lxt0805yw-tr-2110164.pdf?src-supplier=Digi-Key; ComponentLink7URL: https://datasheet.ciiva.com/30084/sml-lxt0805yw-tr-30084235.pdf?src-supplier=Onlinecomponents.com; ComponentLink7Description: https://datasheet.ciiva.com/30084/sml-lxt0805yw-tr-30084235.pdf?src-supplier=Onlinecomponents.com; ComponentLink8URL: https://datasheet.ciiva.com/14603/70127240-14603821.pdf?src-supplier=Allied+Electronics; ComponentLink8Description: https://datasheet.ciiva.com/14603/70127240-14603821.pdf?src-supplier=Allied+Electronics; Category: Optoelectronics
footprint L0805
pins: 1 A, 2 K

## SPX3819M5-L-3-3/TR
designator VR?
IC REG LINEAR 3.3V 500MA SOT23-5; Manufacturer 1: Exar; Manufacturer Part Number 1: SPX3819M5-L-3-3/TR; Dropout Voltage: 340mV; Number of Outputs: 1; Min Input Voltage: 2.5V; Max Input Voltage: 16V; Polarity: Positive; Quiescent Current: 3uA; Accuracy: 1%; Output Type: Fixed; Supplier 1: Digi-Key; Stock 1: 34948; Pricing 1: 1=0.52000, 10=0.44100, 25=0.41160, 100=0.32930, 250=0.30576, 500=0.25872, 1000=0.19992 (USD); RoHS: Yes; Mount: Surface Mount; Case/Package: SOT-23-5; Number of Pins: 5; Min Operating Temperature: -40°C; Max Operating Temperature: 125°C; Output Voltage: 3.3V; Packaging: Tape and Reel; Output Current: 500mA; Max Output Current: 500mA; Number of Regulators: 1; Min Output Voltage: 3.3V; Output Voltage Accuracy: 1%; Length: 2.9mm; Height: 1.3mm; Width: 1.6mm; Radiation Hardening: No; Lead Free: Lead Free; ComponentLink1URL: https://datasheet.ciiva.com/6594/spx3819-ds-r202-052014-6594086.pdf?src-supplier=Digi-Key; ComponentLink1Description: https://datasheet.ciiva.com/6594/spx3819-ds-r202-052014-6594086.pdf?src-supplier=Digi-Key; ComponentLink2URL: https://datasheet.ciiva.com/16291/spx3819-series-16291548.pdf?src-supplier=Future+Electronics; ComponentLink2Description: https://datasheet.ciiva.com/16291/spx3819-series-16291548.pdf?src-supplier=Future+Electronics; Supplier Part Number 1: 1016-1873-1-ND
footprint SPX3819M5-L-3-3/TR (IC REG LINEAR 3.3V 500MA SOT23-5)
pins: 1 Vin (power), 2 GND (power), 3 EN (in), 4 ADJ/BYP (in), 5 Vout (power)